# Altium footprint library PCB_XL6009-BUCK-BOOST-CONVERTER_2_2025-05-19.PcbLib: 12 footprints
Each footprint in its own frame and in the unit in brackets; x right, y up, seen from the top. Pads: shape width x height; smd on the part's side, far side on the other; paste and mask are expansions set on the pad; w line width, h text height; cw(c..) or ccw(c..) is an arc to the next point about the centre after c.
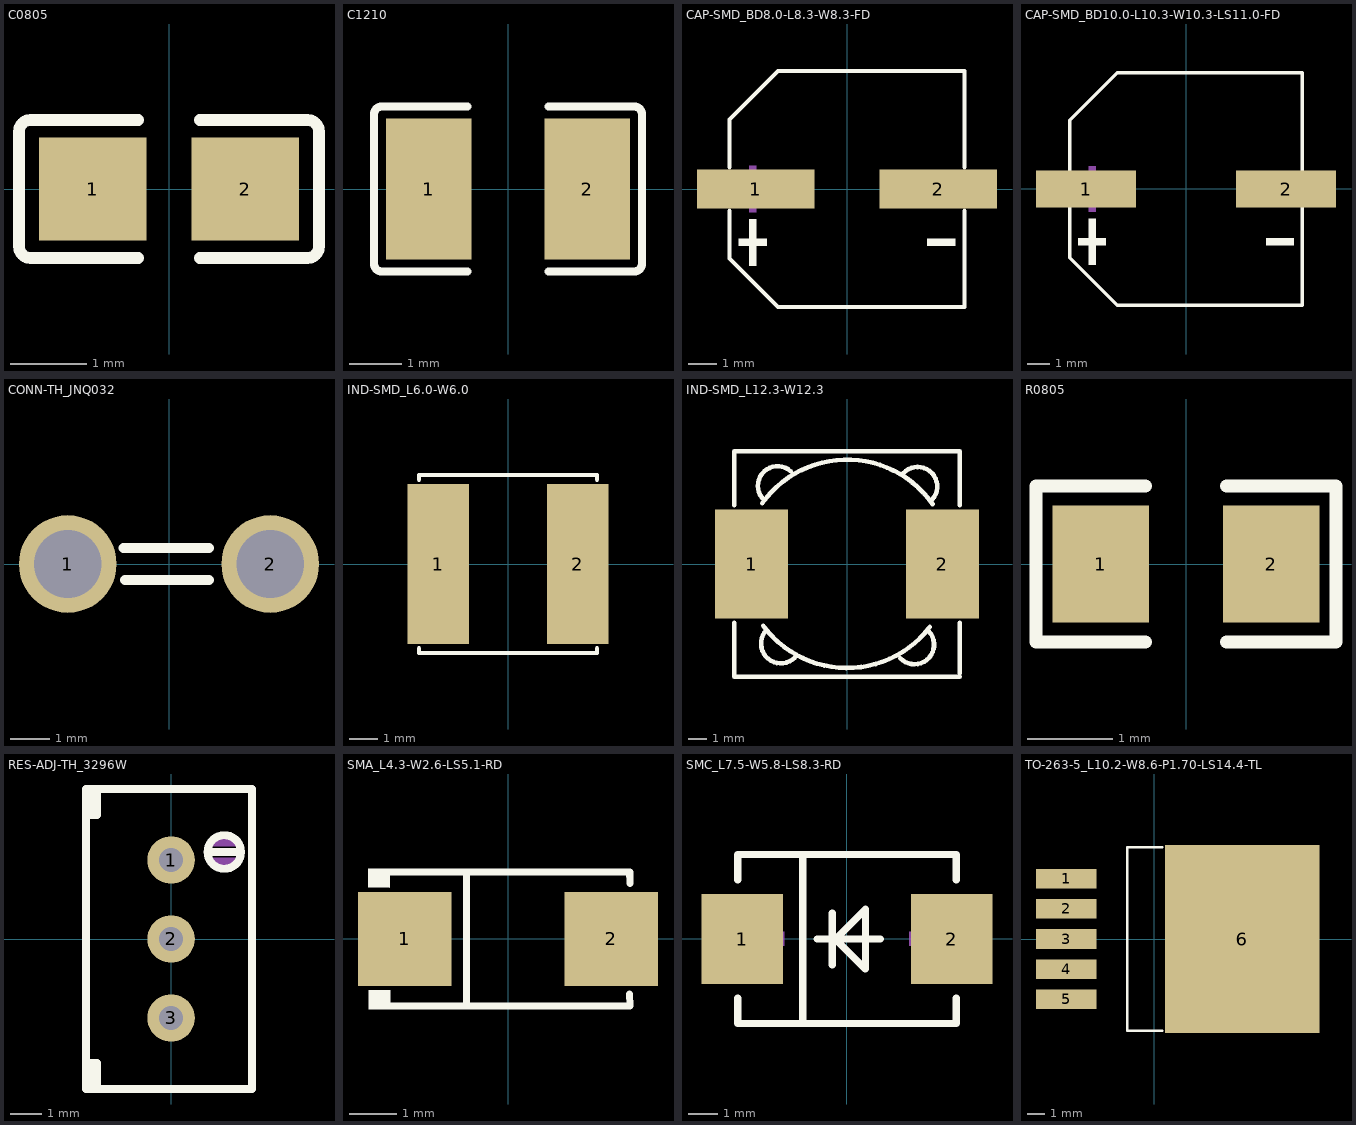
[diagram p0: the footprints below, top view; thin cyan lines are the x and y axes]

## C0805 [mm]
pads (2):
  rect 1.41x1.35 smd paste-100 mask+0.051: 1(-1,0) 2(1,0)
Top Overlay:
  lines w0.152: -0.401,-0.904 -1.811,-0.904 cw(c-1.811,-0.751) -1.964,-0.751 -1.964,0.751 cw(c-1.811,0.751) -1.811,0.904 -0.401,0.904 ; 0.401,-0.904 1.811,-0.904 ccw(c1.811,-0.751) 1.964,-0.751 1.964,0.751 ccw(c1.811,0.751) 1.811,0.904 0.401,0.904
Top Paste:
  region: -1.675,-0.62 -1.675,0.66 -1.625,0.71 -0.475,0.71 -0.425,0.66 -0.42,0.25 -0.87,0.25 -0.87,-0.2 -0.43,-0.2 -0.425,-0.62 -0.475,-0.67 -1.625,-0.67
  region: 0.475,-0.62 0.475,-0.2 0.92,-0.2 0.92,0.25 0.48,0.25 0.475,0.66 0.525,0.71 1.675,0.71 1.725,0.66 1.725,-0.62 1.675,-0.67 0.525,-0.67

## C1210 [mm]
pads (2):
  rect 1.635x2.7 smd paste-100 mask+0.051: 1(-1.517,0) 2(1.517,0)
Top Overlay:
  lines w0.152: -0.776,-1.579 -2.411,-1.579 cw(c-2.411,-1.426) -2.564,-1.426 -2.564,1.426 cw(c-2.411,1.426) -2.411,1.579 -0.776,1.579 ; 0.776,-1.579 2.411,-1.579 ccw(c2.411,-1.426) 2.564,-1.426 2.564,1.426 ccw(c2.411,1.426) 2.411,1.579 0.776,1.579
Top Paste:
  region: -0.7,-1.25 -0.7,-0.559 -0.8,-0.459 -1.156,-0.459 -1.256,-0.359 -1.256,0.359 -1.156,0.459 -0.8,0.459 -0.7,0.559 -0.7,1.25 -0.8,1.35 -2.235,1.35 -2.335,1.25 -2.335,-1.25 -2.235,-1.35 -0.8,-1.35
  region: 0.7,-1.25 0.7,-0.559 0.8,-0.459 1.156,-0.459 1.256,-0.359 1.256,0.359 1.156,0.459 0.8,0.459 0.7,0.559 0.7,1.25 0.8,1.35 2.235,1.35 2.335,1.25 2.335,-1.25 2.235,-1.35 0.8,-1.35

## CAP-SMD_BD8.0-L8.3-W8.3-FD [mm]
pads (2):
  rect 4.2x1.4 smd paste+0 mask+0.051: 1(-3.267,0) 2(3.267,0)
Top Overlay:
  region: -3.503,-1.079 -3.503,-2.739 -3.254,-2.739 -3.254,-1.079
  region: -3.876,-1.785 -3.876,-2.033 -2.88,-2.033 -2.88,-1.785
  region: 3.876,-1.785 3.876,-2.033 2.88,-2.033 2.88,-1.785
  lines w0.152: -4.201,-0.782 -4.201,-2.49 -2.465,-4.226 4.201,-4.226 4.201,-0.782 ; -4.201,0.782 -4.201,2.49 -2.465,4.226 4.201,4.226 4.201,0.782
Mechanical 15:
  region: -3.503,0.83 -3.503,-0.83 -3.254,-0.83 -3.254,0.83
  region: -3.876,0.125 -3.876,-0.125 -2.88,-0.125 -2.88,0.125
  region: 3.876,0.125 3.876,-0.125 2.88,-0.125 2.88,0.125

## CAP-SMD_BD10.0-L10.3-W10.3-LS11.0-FD [mm]
pads (2):
  rect 4.5x1.65 smd paste+0 mask+0.051: 1(-4.5,0) 2(4.5,0)
Top Overlay:
  region: 4.841,-2.215 4.841,-2.524 3.605,-2.524 3.605,-2.215
  region: -4.841,-2.215 -4.841,-2.524 -3.605,-2.524 -3.605,-2.215
  region: -4.378,-1.339 -4.378,-3.399 -4.069,-3.399 -4.069,-1.339
  lines w0.152: -5.226,-0.852 -5.226,-3.09 -3.09,-5.226 5.226,-5.226 5.226,-0.852 ; -5.226,0.852 -5.226,3.09 -3.09,5.226 5.226,5.226 5.226,0.852
Mechanical 15:
  region: 4.841,0.154 4.841,-0.155 3.605,-0.155 3.605,0.154
  region: -4.841,0.154 -4.841,-0.155 -3.605,-0.155 -3.605,0.154
  region: -4.378,1.03 -4.378,-1.03 -4.069,-1.03 -4.069,1.03

## CONN-TH_JNQ032 [mm]
pads (2):
  round 2.45 hole 1.7 paste-2539.97 mask+0.05: 1(-2.54,0) 2(2.54,0)
Top Overlay:
  lines w0.254: -1.14,0.4 1,0.4 ; -1.1,-0.4 1,-0.4

## IND-SMD_L6.0-W6.0 [mm]
pads (2):
  rect 2.2x5.72 smd paste+0 mask+0.051: 1(-2.5,0) 2(2.5,0)
Top Overlay:
  lines w0.152: -3.176,-3.012 -3.176,-3.176 3.176,-3.176 3.176,-3.012 ; -3.176,3.012 -3.176,3.176 3.176,3.176 3.176,3.012

## IND-SMD_L12.3-W12.3 [mm]
pads (2):
  rect 4x6 smd paste+0 mask+0.051: 1(-5.25,0) 2(5.25,0)
Top Overlay:
  lines w0.254: -6.2,-3.231 -6.2,-6.2 6.2,-6.2 ; -6.2,3.231 -6.2,6.2 6.2,6.2 6.2,3.231 ; -4.666,3.348 cw(c0,0) 4.7,3.3 ; -4.6,-3.4 ccw(c0,0) 4.552,-3.464 ; -4.55,3.504 cw(c-3.822,4.299) -3.1,5.1 ; -4.534,-3.759 ccw(c-3.641,-4.378) -2.758,-5.011 ; 2.927,-5.176 ccw(c3.711,-4.435) 4.5,-3.7 ; 3.087,4.988 cw(c3.882,4.26) 4.683,3.538 ; 6.2,-6 6.2,-3.231

## R0805 [mm]
pads (2):
  rect 1.133x1.377 smd paste-100 mask+0.051: 1(-1,0) 2(1,0)
Top Overlay:
  lines w0.152: -0.476,-0.917 -1.761,-0.917 -1.761,0.917 -0.476,0.917 ; 0.476,-0.917 1.761,-0.917 1.761,0.917 0.476,0.917
Top Paste:
  region: 0.45,-0.64 0.45,-0.22 0.895,-0.22 0.895,0.23 0.455,0.23 0.45,0.64 0.5,0.69 1.65,0.69 1.7,0.64 1.7,-0.64 1.65,-0.69 0.5,-0.69
  region: -1.7,-0.64 -1.7,0.64 -1.65,0.69 -0.5,0.69 -0.45,0.64 -0.445,0.23 -0.895,0.23 -0.895,-0.22 -0.455,-0.22 -0.45,-0.64 -0.5,-0.69 -1.65,-0.69

## RES-ADJ-TH_3296W [mil]
pads (3):
  round 60 hole 30 paste-99999 mask+2: 1(0,100) 2(0,0.01) 3(0,-100)
Top Overlay:
  lines w10: 52.36,110.4 67.36,110.4 ; 88.61,110 cw(c67.35,110.2) 88.61,110.4 ; 67.36,110.4 82.36,110.4 67.36,110.4 ; -107.64,-190 -107.64,190 102.36,190 102.36,-190 -107.64,-190 ; -101.58,-187 -101.58,-157 -93.71,-157 -93.71,-187 -101.58,-187 ; -101.58,157.01 -101.58,187.01 -93.71,187.01 -93.71,157.01 -101.58,157.01
Mechanical 15:
  region: 47.45,103.15 48.59,100.11 52.58,94.99 57.92,91.29 64.11,89.35 70.61,89.35 76.8,91.29 82.14,94.99 86.13,100.11 87.27,103.15
  region: 87.27,117.65 86.13,120.69 82.14,125.81 76.81,129.51 70.61,131.45 64.12,131.45 57.92,129.51 52.58,125.81 48.59,120.69 47.45,117.65

## SMA_L4.3-W2.6-LS5.1-RD [mm]
pads (2):
  rect 2x2 smd paste+0 mask+0.051: 1(-2.2,0) 2(2.2,0)
Top Overlay:
  region: -2.52,1.502 -2.521,1.096 -2.981,1.1 -2.977,1.502
  region: -2.512,-1.096 -2.513,-1.503 -2.973,-1.498 -2.969,-1.096
  lines w0.152: -2.596,-1.426 2.596,-1.426 ; -2.596,1.426 2.596,1.426 2.603,1.187 ; -0.884,-1.426 -0.884,1.426 ; 2.593,-1.176 2.6,-1.415
Mechanical 15:
  region: -2.317,-0.101 -2.317,0.101 -1.507,0.101 -1.507,-0.101
  region: 2.317,-0.101 2.317,0.101 1.507,0.101 1.507,-0.101
  region: 2.014,-0.675 2.014,0.675 1.811,0.675 1.811,-0.675

## SMC_L7.5-W5.8-LS8.3-RD [mm]
pads (2):
  rect 2.8x3.1 smd paste+0 mask+0.05: 1(-3.6,0) 2(3.6,0)
Top Overlay:
  lines w0.254: -3.75,-2.032 -3.75,-2.9 3.75,-2.9 3.75,-2.032 ; -3.75,2.032 -3.75,2.9 3.75,2.9 3.75,2.032 ; -1.524,-2.879 -1.524,2.9 ; -1.016,0 1.143,0 ; -0.508,-0.889 -0.508,0.889 ; -0.474,0 -0.381,0 0.635,1.016 0.635,-1.016 0.617,-1.016 -0.399,0
Mechanical 15:
  region: -2.156,-0.23 -4.166,-0.23 -4.166,0.25 -2.156,0.25
  region: 2.921,-0.994 2.921,1.016 3.401,1.016 3.401,-0.994
  region: 4.145,-0.23 2.135,-0.23 2.135,0.25 4.145,0.25

## TO-263-5_L10.2-W8.6-P1.70-LS14.4-TL [mm]
pads (6):
  rect 3.4x1.1 smd paste+0 mask+0.051: 1(-4.953,3.4) 2(-4.953,1.7) 3(-4.953,0) 4(-4.953,-1.7) 5(-4.953,-3.4)
  rect 8.705x10.587 smd paste+0 mask+0.051: 6(4.953,0)
Top Overlay:
  lines w0.152: 0.448,-5.166 -1.516,-5.166 -1.516,5.166 0.448,5.166
Mechanical 15:
  circle w0.42: c-6.096,3.429 r0.21